# Altium footprint library baterries_and_accus.PcbLib: 18 footprints (part 1 of 2)
Each footprint in its own frame and in the unit in brackets; x right, y up, seen from the top. Pads: shape width x height; smd on the part's side, far side on the other; paste and mask are expansions set on the pad; w line width, h text height; cw(c..) or ccw(c..) is an arc to the next point about the centre after c.
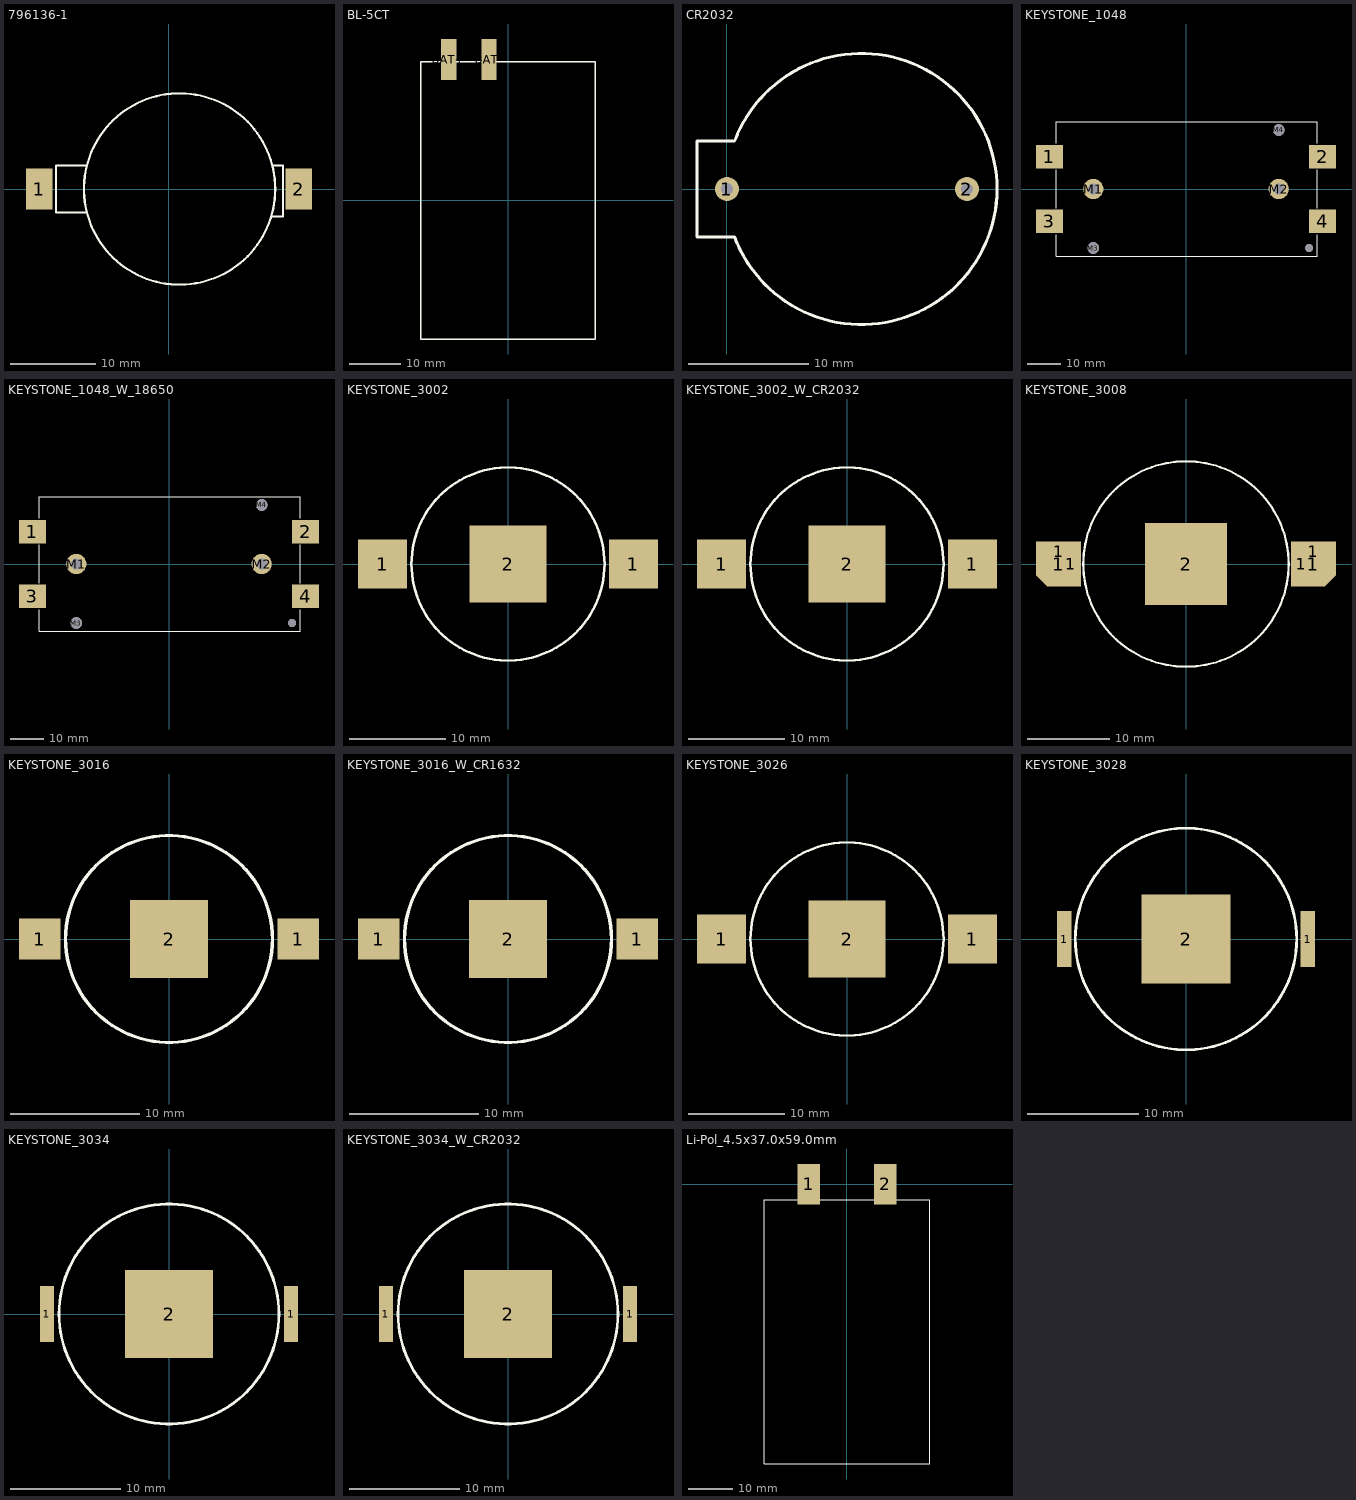
[diagram p0: the footprints below, top view; thin cyan lines are the x and y axes]

## 31x12x4 [mm]
height 4
3D body: height 4, standoff 0, extent 0,0 31,12

## 796136-1 [mm] "Tyco Electronics 796136-1 CR2032 SMD Battery Holder"
height 6.6
pads (2):
  rect 3.15x4.78 smd: 1(-15.25,0) 2(15.25,0)
Top Overlay:
  circle w0.254: c1.25,0 r11.25
  lines w0.256: -9.7,-2.75 -13.3,-2.75 -13.3,2.75 -9.7,2.75 ; 12.1,-3.25 13.4,-3.25 13.4,2.75 12.2,2.75
3D body "c-0796136-01-c-3d.stp": height 6.52, standoff -0.01, extent -16.159,-9.525 16.162,9.525

## BL-5CT [mm] "Nokia BL-5CT Battery"
height 5
pads (2):
  rect 3x8 smd: BAT+(-11.5,27.4) BAT-(-3.7,27.4)
Top Overlay:
  lines w0.254: -17,-27 17,-27 17,27 -17,27 -17,-27
3D body "User Library-BL-5CT.STEP": height 5.51, standoff 0, extent -17,-27 17,27

## CR2032 [mm]
height 5
pads (2):
  round 2 hole 1: 1(0,0) 2(20,0)
Top Overlay:
  lines w0.254: 0.617,-4 -2.5,-4 -2.5,4 0.618,4 ; 0.628,-3.989 ccw(c11.2,0) 0.64,4.023
3D body "User Library-BATTERY HOLDER CR2032.step": height 6.91, standoff -4, extent -4.7,-10.2 23.8,12.8

## KEYSTONE_1048 [mm] "SMT double 18650 LiPo Holder"
pads (9):
  rect 8x7 smd: 1(-40.5,9.555) 2(40.5,9.555) 3(-40.5,-9.555) 4(40.5,-9.555)
  round 6 hole 3.2: M1(-27.5,0) M2(27.5,0)
  round 3.45 hole 3.5: M3(-27.5,-17.505) M4(27.5,17.505)
  round 2.4 hole 2.4: M5(36.5,-17.505)
Top Overlay:
  lines w0.2: -38.5,-13.5 -38.5,-20 39,-20 39,-13.5 ; -38.5,-5.75 -38.5,5.75 ; -38.5,13.5 -38.5,20 39,20 39,13.5 ; 39,-5.75 39,5.75
3D body "keystone-PN1048.STEP": height 14.88, standoff -3.46, extent -42.885,-19.9 43.069,19.876

## KEYSTONE_1048_W_18650 [mm] "SMT double 18650 LiPo Holder"
pads (9):
  rect 8x7 smd: 1(-40.5,9.555) 2(40.5,9.555) 3(-40.5,-9.555) 4(40.5,-9.555)
  round 6 hole 3.2: M1(-27.5,0) M2(27.5,0)
  round 3.45 hole 3.5: M3(-27.5,-17.505) M4(27.5,17.505)
  round 2.4 hole 2.4: M5(36.5,-17.505)
Top Overlay:
  lines w0.2: -38.5,-13.5 -38.5,-20 39,-20 39,-13.5 ; -38.5,-5.75 -38.5,5.75 ; -38.5,13.5 -38.5,20 39,20 39,13.5 ; 39,-5.75 39,5.75
3D body "User Library-18650-1.step": height 18, standoff 0, extent -32.55,-18.25 32.55,-0.25
3D body "User Library-18650-1.step": height 18, standoff 0, extent -32.55,0.25 32.55,18.25
3D body "keystone-PN1048.STEP": height 14.88, standoff -3.46, extent -42.885,-19.9 43.069,19.876

## KEYSTONE_3002 [mm] "CR2020, CR2025, CR2032 Battery Surface Mount Retainer"
pads (3):
  rect 5.08x5.08 smd: 1(-13,0) 1(13,0)
  rect 8x8 smd: 2(0,0)
Top Overlay:
  circle w0.254: c0,0 r10
3D body "keystone-PN3002.STEP": height 3.95, standoff -0.01, extent -15.38,-10.508 15.38,9.355

## KEYSTONE_3002_W_CR2032 [mm] "CR2020, CR2025, CR2032 Battery Surface Mount Retainer"
pads (3):
  rect 5.08x5.08 smd: 1(-13,0) 1(13,0)
  rect 8x8 smd: 2(0,0)
Top Overlay:
  circle w0.254: c0,0 r10
3D body "CircuitWorks-BATT CR2032.step": height 3.3, standoff 0.1, extent -10,-10 10,10
3D body "keystone-PN3002.STEP": height 3.95, standoff -0.01, extent -15.38,-10.508 15.38,9.355

## KEYSTONE_3008 [mm] "CR2450 Battery Surface Mount Compact Contact"
height 5.8
pads (7):
  oct 5.5x5.5 smd: 1(-15.5,0) 1(15.5,0)
  rect 5.5x2.5 smd: 1(-15.5,1.5) 1(15.5,1.5)
  rect 2.5x5.5 smd: 1(-14,0) 1(14,0)
  rect 10x10 smd: 2(0,0)
Top Overlay:
  circle w0.254: c0,0 r12.5
3D body "User Library-Keystone 3008 Battery Holder.step": height 5.84, standoff 0, extent -17.78,-10.17 17.78,12.827

## KEYSTONE_3016 [mm] "CR1612, 1620, 1632 Battery Surface Mount Retainer"
pads (3):
  rect 3.2x3.2 smd: 1(-10,0) 1(10,0)
  rect 6x6 smd: 2(0,0)
Top Overlay:
  circle w0.254: c0,0 r8
3D body "User Library-keystone-PN3016.step": height 3.95, standoff -0.01, extent -11.598,-6.339 11.619,8.739

## KEYSTONE_3016_W_CR1632 [mm] "CR1612, 1620, 1632 Battery Surface Mount Retainer"
pads (3):
  rect 3.2x3.2 smd: 1(-10,0) 1(10,0)
  rect 6x6 smd: 2(0,0)
Top Overlay:
  circle w0.254: c0,0 r8
3D body "User Library-keystone-PN3016.step": height 3.95, standoff -0.01, extent -11.598,-6.339 11.619,8.739
3D body "User Library-001085 cr-1632 batt.step": height 3.2, standoff 0, extent -8,-8 8,8

## KEYSTONE_3026 [mm] "CR2016 Battery Surface Mount Retainer"
pads (3):
  rect 5.08x5.08 smd: 1(-13,0) 1(13,0)
  rect 8x8 smd: 2(0,0)
Top Overlay:
  circle w0.254: c0,0 r10
3D body "keystone-PN3026.STEP": height 2.15, standoff -0.01, extent -15.38,-10.508 15.38,9.355

## KEYSTONE_3028 [mm] "CR2012 Battery Surface Mount Retainer"
pads (3):
  rect 1.3x5.08 smd: 1(-11,0) 1(11,0)
  rect 8x8 smd: 2(0,0)
Top Overlay:
  circle w0.254: c0,0 r10
3D body "keystone-PN3028.STEP": height 1.75, standoff 0.05, extent -11.57,-7.957 11.57,8

## KEYSTONE_3034 [mm] "CR2020, CR2025, CR2032 Battery Surface Mount Retainer"
pads (3):
  rect 1.27x5.08 smd: 1(-11.1,0) 1(11.1,0)
  rect 8x8 smd: 2(0,0)
Top Overlay:
  circle w0.254: c0,0 r10
3D body "keystone-PN3034.STEP": height 4.05, standoff -0.01, extent -11.621,-7.779 11.621,8.7

## KEYSTONE_3034_W_CR2032 [mm] "CR2020, CR2025, CR2032 Battery Surface Mount Retainer"
pads (3):
  rect 1.27x5.08 smd: 1(-11.1,0) 1(11.1,0)
  rect 8x8 smd: 2(0,0)
Top Overlay:
  circle w0.254: c0,0 r10
3D body "keystone-PN3034.STEP": height 4.05, standoff -0.01, extent -11.621,-7.779 11.621,8.7
3D body "CircuitWorks-BATT CR2032.step": height 3.3, standoff 0.1, extent -10,-10 10,10

## Li-Pol_4.5x37.0x59.0mm [mm] "e.g. SONY US453759 1260mAh Li-POL 3,7V"
height 4.5
pads (2):
  rect 5x9 smd: 1(-8.5,0) 2(8.5,0)
Top Overlay:
  lines w0.2: -18.5,-62.5 18.5,-62.5 18.5,-3.5 -18.5,-3.5 -18.5,-62.5
3D body: height 4.5, standoff 0, extent -18.5,-62.5 18.5,-3.5